# Altium integrated library 0603 3.4kR RP73PF1J3K4BTDF.IntLib: 1 symbol
Pins are listed as number, name and electrical type; pins without a type are passive.

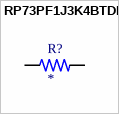
[diagram p0: symbol RP73PF1J3K4BTDF]

## RP73PF1J3K4BTDF
designator R?
RES, THIN FILM, 3K4, 0.1%, 0.166W, 0603; MP: RP73PF1J3K4BTDF; Package: None; Price: None; Value: *; Availability: Unavailable
footprint RESC1608X50N
pins: 1, 2